# Altium footprint library Panorama_V_0_0_1.PcbLib: 20 footprints (part 1 of 2)
Each footprint in its own frame and in the unit in brackets; x right, y up, seen from the top. Pads: shape width x height; smd on the part's side, far side on the other; paste and mask are expansions set on the pad; w line width, h text height; cw(c..) or ccw(c..) is an arc to the next point about the centre after c.
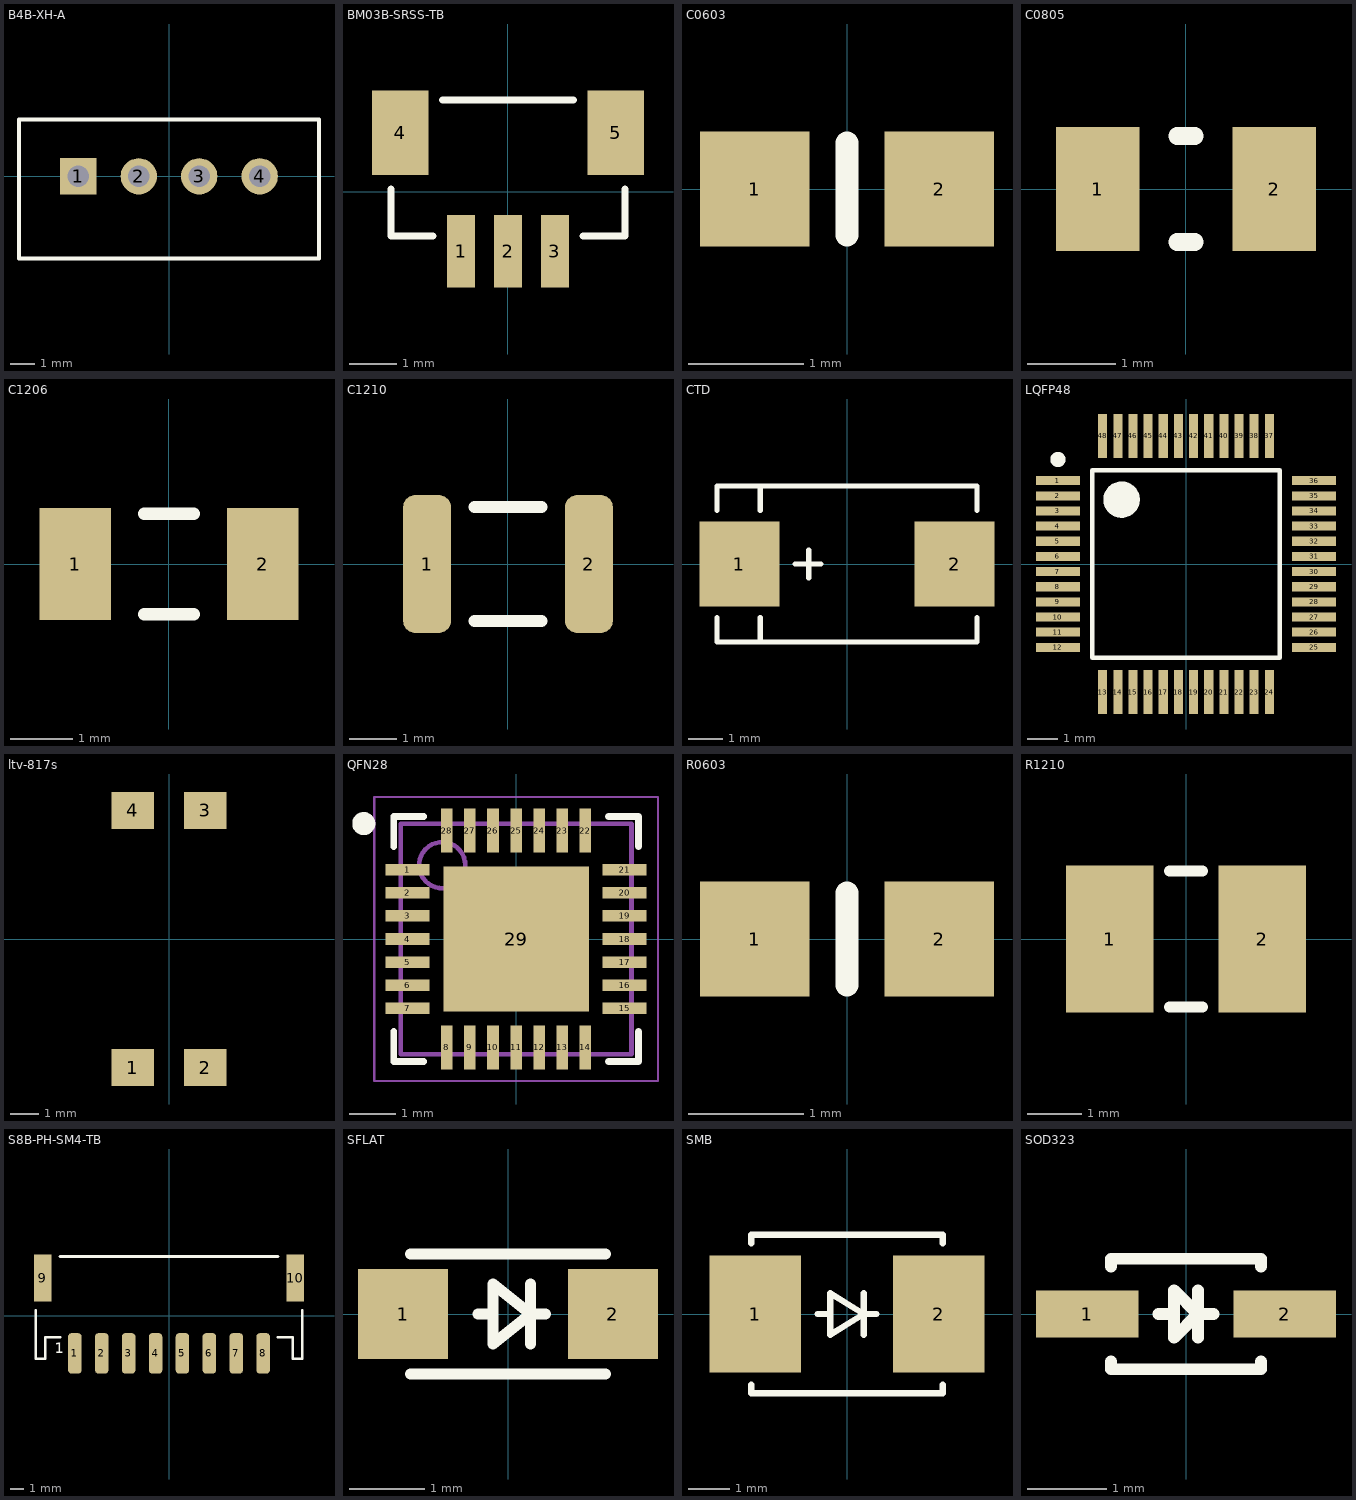
[diagram p0: the footprints below, top view; thin cyan lines are the x and y axes]

## B4B-XH-A [mm]
height 2.05
pads (4):
  rect 1.5x1.5 hole 0.9: 1(-3.75,0)
  round 1.5 hole 0.9: 2(-1.25,0) 3(1.25,0) 4(3.75,0)
Top Overlay:
  lines w0.15: -6.2,-3.4 -6.2,2.35 6.2,2.35 6.2,-3.4 -6.2,-3.4
3D body "SW3dPS-jst-b4b-xh-a-1.step": height 7, standoff -3.4, extent -6.193,-3.404 6.207,2.346

## BM03B-SRSS-TB [mm]
height 2.05
pads (5):
  rect 0.6x1.55 smd: 1(-1,-1.262) 2(0,-1.262) 3(1,-1.262)
  rect 1.2x1.8 smd: 4(-2.3,1.263) 5(2.3,1.263)
Top Overlay:
  lines w0.15: -2.5,0.063 -2.5,-0.937 -1.6,-0.937 ; -1.4,1.963 1.4,1.963 ; 1.6,-0.937 2.5,-0.937 2.5,0.063
3D body "BM03B-SRSS-TB.STEP": height 4.25, standoff 0, extent -2.509,-1.637 2.491,1.963

## C0603 [mm]
height 2.05
pads (2):
  rect 0.95x1 smd: 1(-0.8,0) 2(0.8,0)
Top Overlay:
  lines w0.2: 0,-0.4 0,0.4
3D body "C0603.STEP": height 0.8, standoff 0, extent -0.813,-0.406 0.787,0.394

## C0805 [mm]
height 2.05
pads (2):
  rect 0.95x1.4 smd: 1(-1,0) 2(1,0)
Top Overlay:
  lines w0.2: -0.1,-0.6 0.1,-0.6 ; -0.1,0.6 0.1,0.6
3D body "C0805.STEP": height 0.85, standoff 0, extent -1.016,-0.635 0.984,0.615

## C1206 [mm]
height 2.05
pads (2):
  rect 1.15x1.8 smd: 1(-1.5,0) 2(1.5,0)
Top Overlay:
  lines w0.2: -0.4,-0.8 0.4,-0.8 ; -0.4,0.8 0.4,0.8
3D body "C1206.STEP": height 1.6, standoff 0, extent -1.6,-0.8 1.6,0.8

## C1210 [mm]
height 2.05
pads (2):
  rrect50% 1x2.9 smd: 1(-1.7,0) 2(1.7,0)
Top Overlay:
  lines w0.254: -0.7,-1.2 0.7,-1.2 ; -0.7,1.2 0.7,1.2
3D body "C1210.STEP": height 2.5, standoff 0, extent -1.5,-1.3 1.7,1.2

## CTD [mm]
height 2.05
pads (2):
  rect 2.3x2.45 smd: 1(-3.1,0) 2(3.1,0)
Top Overlay:
  lines w0.15: -3.75,-1.55 -3.75,-2.25 3.75,-2.25 3.75,-1.55 ; -3.75,1.55 -3.75,2.25 3.75,2.25 3.75,1.55 ; -2.5,-2.25 -2.5,-1.55 ; -2.5,1.55 -2.5,2.25 ; -1.5,0 -0.75,0 ; -1.1,-0.4 -1.1,0.4
3D body "CTD.STEP": height 2.8, standoff 0, extent -3.65,-2.15 3.652,2.15

## LQFP48 [mm] "TSQFP, 48-Leads, Body 7,00x7,00mm, Pitch 0,50mm, IPC Medium Density"
height 1.6
pads (48):
  rect 1.45x0.3 smd: 1(-4.225,2.75) 2(-4.225,2.25) 3(-4.225,1.75) 4(-4.225,1.25) 5(-4.225,0.75) 6(-4.225,0.25) 7(-4.225,-0.25) 8(-4.225,-0.75) 9(-4.225,-1.25) 10(-4.225,-1.75) 11(-4.225,-2.25) 12(-4.225,-2.75) 25(4.225,-2.75) 26(4.225,-2.25) 27(4.225,-1.75) 28(4.225,-1.25) 29(4.225,-0.75) 30(4.225,-0.25) 31(4.225,0.25) 32(4.225,0.75) 33(4.225,1.25) 34(4.225,1.75) 35(4.225,2.25) 36(4.225,2.75)
  rect 0.3x1.45 smd: 13(-2.75,-4.225) 14(-2.25,-4.225) 15(-1.75,-4.225) 16(-1.25,-4.225) 17(-0.75,-4.225) 18(-0.25,-4.225) 19(0.25,-4.225) 20(0.75,-4.225) 21(1.25,-4.225) 22(1.75,-4.225) 23(2.25,-4.225) 24(2.75,-4.225) 37(2.75,4.225) 38(2.25,4.225) 39(1.75,4.225) 40(1.25,4.225) 41(0.75,4.225) 42(0.25,4.225) 43(-0.25,4.225) 44(-0.75,4.225) 45(-1.25,4.225) 46(-1.75,4.225) 47(-2.25,4.225) 48(-2.75,4.225)
Top Overlay:
  circle w0.6: c-2.125,2.125 r0.3
  circle w0.25: c-4.225,3.45 r0.125
  lines w0.15: -3.1,-3.1 3.1,-3.1 3.1,3.1 -3.1,3.1 -3.1,-3.1
3D body "TSQFP50P900X900X160-48N.step": height 1.6, standoff 0, extent -4.5,-4.5 4.5,4.5

## ltv-817s [mm]
height 2.05
pads (4):
  rect 1.5x1.3 smd: 1(-1.27,-4.5) 2(1.27,-4.5) 3(1.27,4.5) 4(-1.27,4.5)
3D body "SW3dPS-4-SMD.STEP": height 3.81, standoff 0.05, extent -2.159,-5.004 2.439,5.156

## QFN28 [mm]
height 2.05
pads (29):
  rect 0.95x0.25 smd: 1(-2.35,1.5) 2(-2.35,1) 3(-2.35,0.5) 4(-2.35,0) 5(-2.35,-0.5) 6(-2.35,-1) 7(-2.35,-1.5) 15(2.35,-1.5) 16(2.35,-1) 17(2.35,-0.5) 18(2.35,0) 19(2.35,0.5) 20(2.35,1) 21(2.35,1.5)
  rect 0.25x0.95 smd: 8(-1.5,-2.35) 9(-1,-2.35) 10(-0.5,-2.35) 11(0,-2.35) 12(0.5,-2.35) 13(1,-2.35) 14(1.5,-2.35) 22(1.5,2.35) 23(1,2.35) 24(0.5,2.35) 25(0,2.35) 26(-0.5,2.35) 27(-1,2.35) 28(-1.5,2.35)
  rect 3.15x3.15 smd: 29(0,0)
Top Overlay:
  circle w0.25: c-3.3,2.5 r0.125
  lines w0.15: -2.65,-2 -2.65,-2.65 -2,-2.65 ; -2.65,2 -2.65,2.65 -2,2.65 ; 2,-2.65 2.65,-2.65 2.65,-2 ; 2,2.65 2.65,2.65 2.65,2
Mechanical 13:
  circle w0.1: c-1.6,1.6 r0.5
  lines w0.1: -2.5,-2.5 2.5,-2.5 2.5,2.5 -2.5,2.5 -2.5,-2.5
Mechanical 15:
  lines w0.05: -3.075,-3.075 3.075,-3.075 3.075,3.075 -3.075,3.075 -3.075,-3.075
  lines w0.1: -0.5,0 0.5,0 ; 0,-0.5 0,0.5
3D body "QFN28_1.step": height 0.9, standoff 0, extent -2.55,-2.55 2.55,2.55

## R0603 [mm]
height 2.05
pads (2):
  rect 0.95x1 smd: 1(-0.8,0) 2(0.8,0)
Top Overlay:
  lines w0.2: 0,-0.4 0,0.4
3D body "R0603.STEP": height 0.45, standoff 0, extent -0.8,-0.4 0.8,0.4

## R1210 [mm]
height 0.6
pads (2):
  rect 1.6x2.7 smd: 1(-1.4,0) 2(1.4,0)
Top Overlay:
  lines w0.2: -0.3,-1.25 0.3,-1.25 ; -0.3,1.25 0.3,1.25
3D body "SW3dPS-R1210.step": height 0.47, standoff 0, extent -1.6,-1.3 1.5,1.302

## S8B-PH-SM4-TB [mm]
height 2.05
pads (10):
  rrect50% 1x3 smd: 1(-7,-2.8) 2(-5,-2.8) 3(-3,-2.8) 4(-1,-2.8) 5(1,-2.8) 6(3,-2.8) 7(5,-2.8) 8(7,-2.8)
  rect 1.3x3.5 smd: 9(-9.4,2.8) 10(9.4,2.8)
Top Overlay:
  lines w0.2: -9.9,0.4 -9.9,-3.2 -9.2,-3.2 -9.2,-1.6 -8.1,-1.6 ; -8.1,4.4 8.1,4.4 ; 8.1,-1.6 9.2,-1.6 9.2,-3.2 9.9,-3.2 9.9,0.4
  text "1                    8" at -8.5,-2.8 h0.8
3D body "S8B-PH-SM4-TB.STEP": height 5.6, standoff 0, extent -9.95,-4.2 9.95,4.4

## SFLAT [mm]
height 2.05
pads (2):
  rect 1.2x1.2 smd: 1(-1.4,0) 2(1.4,0)
Top Overlay:
  lines w0.15: -1.3,-0.8 1.3,-0.8 ; -1.3,0.8 1.3,0.8 ; -0.4,0 -0.2,0 ; 0.3,-0.4 0.3,0.4 ; 0.5,0 0.3,0 ; 0.3,0 -0.2,-0.4 -0.2,0.4 0.3,0
3D body "SFLAT.STEP": height 0.98, standoff 0, extent -1.75,-0.8 1.75,0.8

## SMB [mm]
height 2.05
pads (2):
  rect 2.2x2.8 smd: 1(-2.2,0) 2(2.2,0)
Top Overlay:
  lines w0.15: -2.3,-1.7 -2.3,-1.9 2.3,-1.9 2.3,-1.7 ; -2.3,1.7 -2.3,1.9 2.3,1.9 2.3,1.7 ; -0.7,0 -0.4,0 ; 0.4,-0.5 0.4,0.5 ; 0.7,0 0.4,0 ; 0.4,0 -0.4,-0.5 -0.4,0.5 0.4,0
3D body "SW3dPS-DO-214AA SMB.step": height 2.3, standoff 0, extent -2.7,-1.8 2.7,1.8

## SOD323 [mm]
height 2.05
pads (2):
  rect 1.3x0.6 smd: 1(-1.25,0) 2(1.25,0)
Top Overlay:
  lines w0.15: -0.95,-0.6 -0.95,-0.7 0.95,-0.7 0.95,-0.6 ; -0.95,0.6 -0.95,0.7 0.95,0.7 0.95,0.6 ; -0.35,0 -0.16,0 ; 0.15,-0.3 0.15,0.3 ; 0.35,0 0.15,0 ; 0.15,0 -0.15,-0.3 -0.15,0.3 0.15,0
3D body "SW3dPS-SOD-323F.STEP": height 0.79, standoff -0.08, extent -1.35,-0.675 1.35,0.675